# Altium schematic symbol library resistors.SchLib: 44 symbols
Pins are listed as number, name and electrical type; pins without a type are passive.

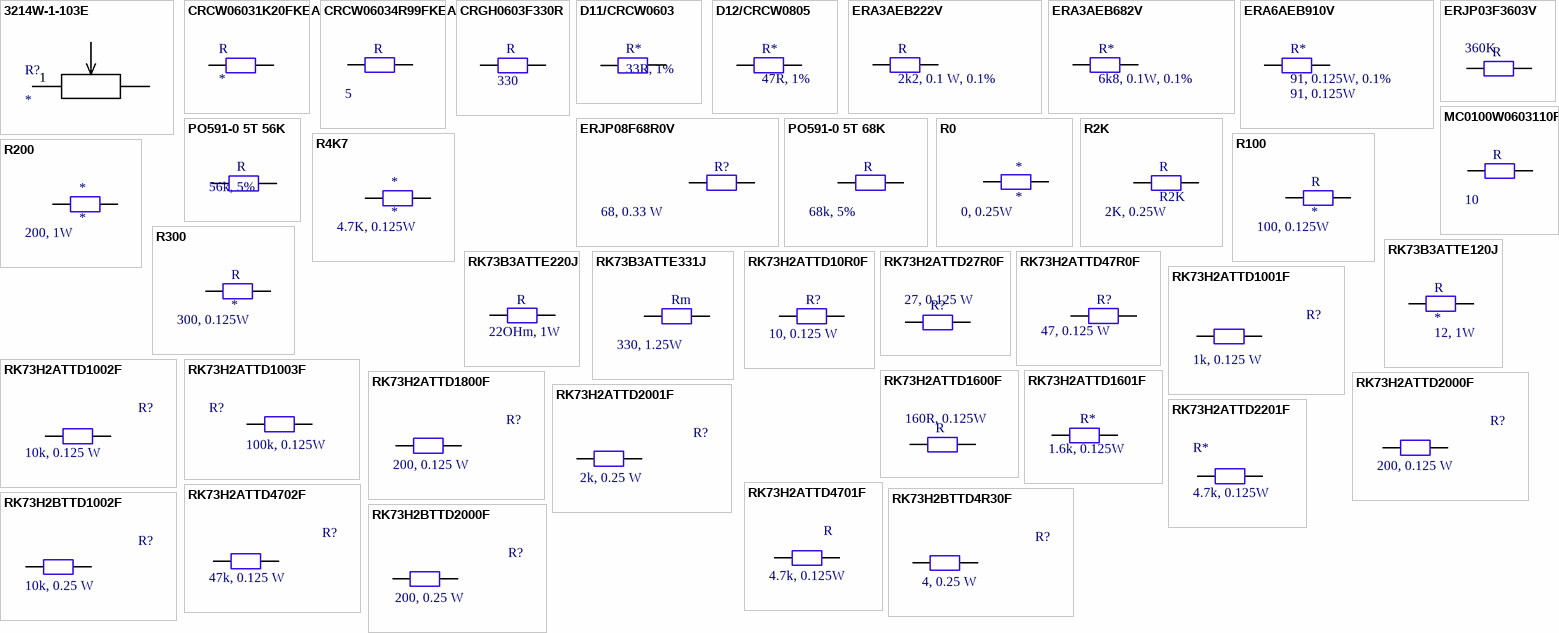
[diagram p0: symbols 3214W-1-103E to RK73H2BTTD2000F]

## 3214W-1-103E
designator R?
10k,0.25W; Manufacture: BOURNS; Order code: 514986; datasheet: http://datasheet.octopart.com/3362H-1-102LF-Bourns-datasheet-7280881.pdf; Price: 3,9; Supplier: Farnell; Value: 10k, 0.25W; Type: 3214W-1-103E; Package: smd
footprint 3214W
pins: 1, 2, 3

## CRCW06031K20FKEA
designator R
Value: 1.2kV; Order code: 2122374; Supplier: Farnell
footprint smd_0603
pins: 1, 2

## CRCW06034R99FKEA
designator R  value 5  (hidden comment: *)
Order code: 2614317; Supplier: Farnel
footprint smd_0603
pins: 1, 2

## CRGH0603F330R
designator R  value 330  (hidden comment: *)
Order code: 2331995; Supplier: Farnell
footprint smd_0603
pins: 1, 2

## D11/CRCW0603
designator R*  value 33R, 1%  (hidden comment: *)
Manufacturer: Vishay; Order code: 60-596-69; Type: 75V, 0.1W; Price: 0.035; Supplier: Elfa; Package: smd 0603
footprint smd_0603
pins: 1, 2

## D12/CRCW0805
designator R*, comment 47R, 1%
Manufacturer: Vishay; Value: 47R, 0.25W; Order code: 60-586-86; Type: *; Supplier: Elfa; Price: 0.062; Package: smd 0805
footprint SMD_0805
pins: 1, 2

## ERA3AEB222V
designator R, comment 2k2, 0.1 W, 0.1%
Manufacturer: Panasonic; Order code: 60-156-71; Type: ± 0.1 %, 150V; Value: 2k2, 0.1 W; Price: 0.3; Package: smd 0603; Supplier: Elfa
footprint smd_0603
pins: 1, 2

## ERA3AEB682V
designator R*, comment 6k8, 0.1W, 0.1%
Manufacturer: Panasonic; Order code: 60-156-83; Type: 0.1%, 150V; Value: 6k8, 0.1W; Package: smd 0603; Price: 0.37; Supplier: Elfa
footprint smd_0603
pins: 1, 2

## ERA6AEB910V
designator R*, comment 91, 0.125W, 0.1%  value 91, 0.125W
Manufacturer: Panasonic; Order code: 60-219-42; Type: 0.1%, 200V; Supplier: Elfa; Package: smd 0805; Price: 0.37
footprint SMD_0805
pins: 1, 2

## ERJP03F3603V
designator R  value 360K  (hidden comment: *)
Manufacturer: Vishay; Order code: 60-587-79; Type: 1%; Price: 0.062; Supplier: Elfa; Package: smd0805
footprint SMD_0805
pins: 1, 2

## ERJP08F68R0V
designator R?  value 68, 0.33 W  (hidden comment: ERJP08F68R0V)
68, 0.33 W; Manufacturer: Panasonic; Order code: 6098725; Price: 0,17; Supplier: Elfa; datasheet: https://www1.elfa.se/data1/wwwroot/assets/datasheets/ERJP_eng_tds.pdf; Type: ERJP08F68R0V; Package: smd 1206
footprint SMD_1206
pins: 1, 2

## MC0100W0603110R
designator R  value 10  (hidden comment: *)
Order code: 2845755; Supplier: Farnell
footprint smd_0603
pins: 1, 2

## PO591-0 5T 56K
designator R  value 56k, 5%  (hidden comment: *)
Manufacturer: Vitrohm; Order code: 60-244-27; Type: 4w, 750V; Price: 0.88; Supplier: Elfa; Package: Through hole
footprint Through_hole
pins: 1, 2

## PO591-0 5T 68K
designator R  value 68k, 5%  (hidden comment: *)
Manufacturer: Vitrohm; Order code: 60-244-28; Type: 4w, 750V; Price: 0.88; Package: Through hole; Supplier: Elfa
footprint Through_hole
pins: 1, 2

## R0
designator *  value 0, 0.25W
Manufacturer: Vishay; Order code: 60-588-17; Type: 16V, 1%; Supplier: Elfa; Price: 0.025; Package: smd 0805
footprint SMD_0805
pins: 1, 2

## R2K
designator R  value 2K, 0.25W
Type: 50V, 5%; Price: *; Supplier: *; Order code: *; Package: Through hole
footprint R1BT
pins: 1, 2

## R4K7
designator *  value 4.7K, 0.125W
Order code: 9332154; Type: 16V, 1%; Package: smd 0603; Manufacturer: *; Supplier: Farnel; Price: 0.01
footprint smd_0603
pins: 1, 2

## R100
designator R  value 100, 0.125W
Type: 16V, 1%; Package: smd 0603; Order code: *; Price: *; Supplier: *; Manufacturer: *
footprint smd_0603
pins: 1, 2

## R200
designator *  value 200, 1W
Type: 50V, 1%; Price: *; Order code: *; Manufacturer: *; Package: Through hole
footprint R1BT
pins: 1, 2

## R300
designator R  value 300, 0.125W
Order code: 1887604RL; Type: 16V, 1%; Package: smd 2010; Price: 0.156; Supplier: Farnel; Manufacturer: *
footprint SMD_2010
pins: 1, 2

## RK73B3ATTE120J
designator R  value 12, 1W
Manufacturer: KOA; Order code: 60-205-98; Type: 200V, 5%; Supplier: Elfa; Price: 0,144; Package: smd 2512
footprint SMD_2512
pins: 1, 2

## RK73B3ATTE220J
designator R  value 22OHm, 1W  (hidden comment: *)
Manufacturer: KOA; Order code: 60-206-22; Type: RK73B3ATTE220J; Price: 0,144; Package: smd 2512; Supplier: Elfa
footprint SMD_2512
pins: 1, 2

## RK73B3ATTE331J
designator Rm  value 330, 1.25W  (hidden comment: *)
Order code: 60-207-62; Type: *; Supplier: Elfa; Package: 2512; Manufacturer: *; Price: 0.144
footprint SMD_2512
pins: 1, 2

## RK73H2ATTD10R0F
designator R?  value 10, 0.125 W  (hidden comment: RK73H2ATTD10R0F)
10, 0.125 W; Manufacturer: KOA; Order code: 6017016; Price: 0,097; Supplier: Elfa; datasheet: https://www1.elfa.se/data1/wwwroot/assets/datasheets/06016752.pdf; Type: RK73H2ATTD10R0F; Package: smd 0805
footprint SMD_0805
pins: 1, 2

## RK73H2ATTD27R0F
designator R?  value 27, 0.125 W  (hidden comment: RK73H2ATTD27R0F)
27, 0.125 W; Manufacturer: KOA; Order code: 6017115; Price: 0,097; Supplier: Elfa; datasheet: https://www1.elfa.se/data1/wwwroot/assets/datasheets/06016752.pdf; Type: RK73H2ATTD27R0F; Package: smd 0805
footprint SMD_0805
pins: 1, 2

## RK73H2ATTD47R0F
designator R?  value 47, 0.125 W  (hidden comment: RK73H2ATTD47R0F)
47, 0.125 W; Manufacturer: KOA; Order code: 60-171-72; Price: 0.097; Supplier: Elfa; datasheet: https://www1.elfa.se/data1/wwwroot/assets/datasheets/06016752.pdf; Type: 1%, 16V; Package: smd 0805
footprint SMD_0805
pins: 1, 2

## RK73H2ATTD1001F
designator R?  value 1k, 0.125 W  (hidden comment: RK73H2ATTD1001F)
1k, 0.125 W; Manufacturer: KOA; Order code: 60-174-95; Price: 0.097; Supplier: Elfa; datasheet: https://www1.elfa.se/data1/wwwroot/assets/datasheets/06016752.pdf; Type: 5%, 16V; Package: smd 0805
footprint SMD_0805
pins: 1, 2

## RK73H2ATTD1002F
designator R?  value 10k, 0.125 W  (hidden comment: RK73H2ATTD1002F)
10k, 0.125 W; Manufacturer: KOA; Order code: 60-177-35; Price: 0.097; Supplier: Elfa; Type: 5%, 16V; Package: smd 0805
footprint SMD_0805
pins: 1, 2

## RK73H2ATTD1003F
designator R?  value 100k, 0.125W  (hidden comment: *)
100k,0.125; Manufacturer: KOA; Order code: 6017974; datasheet: https://www1.elfa.se/data1/wwwroot/assets/datasheets/rk73h-series_eng_jap_tds.pdf; Supplier: Elfa; Price: 0,0971; Type: 5%, 16V; Package: smd 0805
footprint SMD_0805
pins: 1, 2

## RK73H2ATTD1600F
designator R  value 160R, 0.125W  (hidden comment: *)
160R, 0.125W; Manufacturer: KOA; Order code: 60-173-05; Type: 1%, 150V; Price: 0.097; Package: smd 0805; Supplier: Elfa
footprint SMD_0805
pins: 1, 2

## RK73H2ATTD1601F
designator R*  value 1.6k, 0.125W
Manufacturer: KOA; Order code: 60-175-45; Type: 1%, 150V; Price: 0.097; Supplier: Elfa; Package: smd0805
footprint SMD_0805
pins: 1, 2

## RK73H2ATTD1800F
designator R?  value 200, 0.125 W  (hidden comment: RK73H2ATTD1800F)
180, 0.125 W; Type: 5%; Package: smd 0603
footprint smd_0603
pins: 1, 2

## RK73H2ATTD2000F
designator R?  value 200, 0.125 W  (hidden comment: RK73H2ATTD2000F)
200, 0.125 W; Manufacturer: KOA; Order code: 6017321; Price: 0,097; Supplier: Elfa; datasheet: https://www1.elfa.se/data1/wwwroot/assets/datasheets/06016752.pdf; Type: RK73H2ATTD2000F; Package: smd 0805
footprint SMD_0805
pins: 1, 2

## RK73H2ATTD2001F
designator R?  value 2k, 0.25 W  (hidden comment: RK73H2ATTD2001F)
2k, 0.125 W; Manufacturer: KOA; Order code: 60-175-60; Price: 0.097; Supplier: Elfa; datasheet: https://www1.elfa.se/data1/wwwroot/assets/datasheets/06016752.pdf; Type: 5%, 50V; Package: smd 0805
footprint SMD_0805
pins: 1, 2

## RK73H2ATTD2201F
designator R*  value 4.7k, 0.125W  (hidden comment: *)
2.2 k, 0.125W; Manufacturer: KOA; Order code: 60-175-78; Type: 1%, 150V; Price: 0.097; Package: smd 0805; Supplier: Elfa
footprint SMD_0805
pins: 1, 2

## RK73H2ATTD4701F
designator R  value 4.7k, 0.125W  (hidden comment: *)
4.7k, 0.125W; Manufacturer: KOA; Order code: 60-176-51; Type: 1%, 150V; Package: smd 0805; Price: 0.097; Supplier: Elfa
footprint SMD_0805
pins: 1, 2

## RK73H2ATTD4702F
designator R?  value 47k, 0.125 W  (hidden comment: RK73H2ATTD4702F)
47k, 0.125 W; Manufacturer: KOA; Order code: 6017891; Price: 0,097; Supplier: Elfa; datasheet: https://www1.elfa.se/data1/wwwroot/assets/datasheets/06016752.pdf; Type: RK73H2ATTD4702F; Package: smd 0805
footprint SMD_0805
pins: 1, 2

## RK73H2BTTD4R30F
designator R?  value 4, 0.25 W  (hidden comment: RK73H2BTTD4R30F)
4, 0.25 W; Manufacturer: KOA; Order code: 6018915; Price: 0,111; Supplier: Elfa; datasheet: https://www1.elfa.se/data1/wwwroot/assets/datasheets/rk73h-series_eng_jap_tds.pdf; Type: RK73H2BTTD4R30F; Package: smd 1206
footprint SMD_1206
pins: 1, 2

## RK73H2BTTD1002F
designator R?  value 10k, 0.25 W  (hidden comment: RK73H2BTTD1002F)
10k, 0.25 W; Manufacturer: KOA; Order code: 6019731; Price: 0,111; Supplier: Elfa; datasheet: https://www1.elfa.se/data1/wwwroot/assets/datasheets/06016752.pdf; Type: RK73H2BTTD1002F; Package: smd 1206
footprint SMD_1206
pins: 1, 2

## RK73H2BTTD2000F
designator R?  value 200, 0.25 W  (hidden comment: RK73H2BTTD2000F)
200, 0.25 W; Manufacturer: KOA; Order code: 60-193-27; Price: 0.111; Supplier: Elfa; datasheet: https://www1.elfa.se/data1/wwwroot/assets/datasheets/06016752.pdf; Type: 1%, 16V; Package: smd 1206
footprint SMD_1206
pins: 1, 2

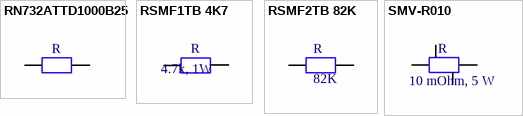
[diagram p1: symbols RN732ATTD1000B25 to SMV-R010]

## RN732ATTD1000B25
designator R  (value not drawn)
Manufacturer: KOA; Value: 100R, 0.1W; Order code: 60-310-66; Type: 100V, 0.1%; Supplier: Elfa; Package: smd 0805; Price: 0.24
footprint SMD_0805
pins: 1, 2

## RSMF1TB 4K7
designator R  value 4.7k, 1W  (hidden comment: *)
Manufacturer: Akane; Order code: 60-539-88; Type: 2%, 350V; Price: 0,24; Package: Through hole; Supplier: Elfa
footprint Through_hole
pins: 1, 2

## RSMF2TB 82K
designator R, comment 82K
Manufacturer: ohmAkane:ohm; Value: 82K, 2%; Order code: 60-540-75; Type: 350V, 2W; Price: 0.28; Supplier: Elfa; Package: throgh hole
footprint R1BT
pins: 1, 2

## SMV-R010
designator R  value 10 mOhm, 5 W  (hidden comment: *)
Manufacturer: Isabellenhütte; Oreder code: 60-574-95; Type: 1%; Price: 1.93; Supplier: Elfa; Package: 12 x 6 x 3.4 mm
footprint SMD_cur_sen_12mm
pins: 1, 2, 3, 4